# Altium schematic symbol library Mechanical.SchLib: 16 symbols
Pins are listed as number, name and electrical type; pins without a type are passive.

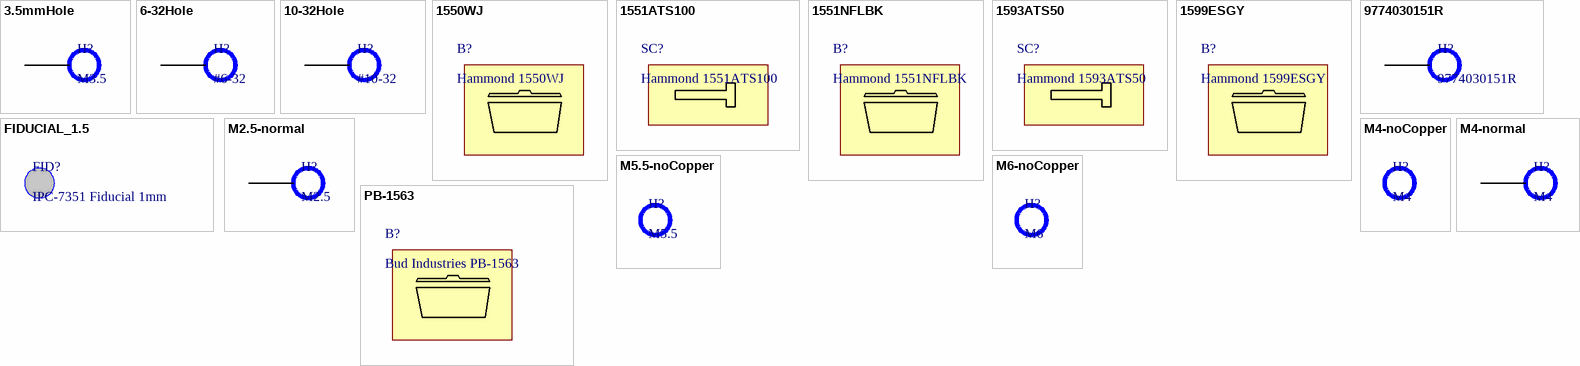
[diagram p0: symbols 3.5mmHole to PB-1563]

## 3.5mmHole
designator H?, comment M3.5  (no BOM)
3.5mm loose fit hole for M3 machine screw; PNP-da: 0
footprint M3.5
pins: 1

## 6-32Hole
designator H?, comment #6-32  (no BOM)
0.150" tight fit hole for #6-32 machine screw; PNP-da: 0
footprint 6-32
pins: 1

## 10-32Hole
designator H?, comment #10-32  (no BOM)
0.190" tight fit hole for #10-32 machine screw; PNP-da: 0
footprint 10-32
pins: 1

## 1550WJ
designator B?, comment Hammond 1550WJ
Box, 10.8" x 6.9", Die-cast Aluminum; PNP-Nzl: 2; PNP-dx: 0; PNP-X: 1; PNP-TS: 70; PNP-Type: CHI; PNP-FeedType: Tape; PNP-TapeWidth: 8; Supplier 1: Digi-Key; Supplier Part Number 1: HM1222-ND; Supplier 2: Mouser; Supplier Part Number 2: 546-1550WJ; PNP-dy: 0; PNP-Y: 1; PNP-A: 0; PNP-Pt: 0; PNP-W: 0; PNP-Thk: 1; PNP-Lv: 1; PNP-Level: 1; PNP-Voff: 0; PNP-PlacePriority: 1; PNP-TapeIndex: 1; PNP-da: 0

## 1551ATS100
designator SC?, comment Hammond 1551ATS100
Screw for PCB Mount, Box 1551NFL (100-pack); PNP-Nzl: 2; PNP-dx: 0; PNP-X: 1; PNP-TS: 70; PNP-Type: CHI; PNP-FeedType: Tape; PNP-TapeWidth: 8; Supplier 1: Digi-Key; Supplier Part Number 1: HM1177-ND; Supplier 2: Arrow; PNP-dy: 0; PNP-Y: 1; PNP-A: 0; PNP-Pt: 0; PNP-W: 0; PNP-Thk: 1; PNP-Lv: 1; PNP-Level: 1; PNP-Voff: 0; PNP-PlacePriority: 1; PNP-TapeIndex: 1; PNP-da: 0

## 1551NFLBK
designator B?, comment Hammond 1551NFLBK
BOX ABS FLANGE BLACK 1.38"L X 1.38"W; PNP-Nzl: 2; PNP-dx: 0; PNP-X: 1; PNP-TS: 70; PNP-Type: CHI; PNP-FeedType: Tape; PNP-TapeWidth: 8; Supplier 1: Digi-Key; Supplier Part Number 1: HM1057-ND; PNP-dy: 0; PNP-Y: 1; PNP-A: 0; PNP-Pt: 0; PNP-W: 0; PNP-Thk: 1; PNP-Lv: 1; PNP-Level: 1; PNP-Voff: 0; PNP-PlacePriority: 1; PNP-TapeIndex: 1; PNP-da: 0

## 1593ATS50
designator SC?, comment Hammond 1593ATS50
Screw for PCB Mount, Box 1599ESGY (50-pack); PNP-Nzl: 2; PNP-dx: 0; PNP-X: 1; PNP-TS: 70; PNP-Type: CHI; PNP-FeedType: Tape; PNP-TapeWidth: 8; Supplier 1: Digi-Key; Supplier Part Number 1: HM1442-ND; PNP-dy: 0; PNP-Y: 1; PNP-A: 0; PNP-Pt: 0; PNP-W: 0; PNP-Thk: 1; PNP-Lv: 1; PNP-Level: 1; PNP-Voff: 0; PNP-PlacePriority: 1; PNP-TapeIndex: 1; PNP-da: 0

## 1599ESGY
designator B?, comment Hammond 1599ESGY
BOX PLASTIC GRAY 6.69"L X 3.37"W; PNP-Nzl: 2; PNP-dx: 0; PNP-X: 1; PNP-TS: 70; PNP-Type: CHI; PNP-FeedType: Tape; PNP-TapeWidth: 8; Supplier 1: Digi-Key; Supplier Part Number 1: HM210-ND; PNP-dy: 0; PNP-Y: 1; PNP-A: 0; PNP-Pt: 0; PNP-W: 0; PNP-Thk: 1; PNP-Lv: 1; PNP-Level: 1; PNP-Voff: 0; PNP-PlacePriority: 1; PNP-TapeIndex: 1; PNP-da: 0

## 9774030151R
designator H?
M2.5, 3mm height PNP/SMT spacer/screw mount; PNP-da: 0; Supplier 1: Digi-Key; Supplier Part Number 1: 732-7083-1-ND
footprint 9774030151R
pins: 1

## FIDUCIAL_1.5
designator FID?, comment IPC-7351 Fiducial 1mm
PNP-Nzl: 2; PNP-dx: 0; PNP-X: 4; PNP-A: 1; PNP-Thk: 1.02; PNP-TS: 70; PNP-Type: MARK1; PNP-dy: 0; PNP-Y: 4; PNP-Pt: 0; PNP-W: 0; PNP-Lv: 1; PNP-Level: 1; PNP-Voff: 0; PNP-FeedType: Fiducial; PNP-TapeWidth: 0; PNP-PlacePriority: 0; PNP-TapeIndex: 0; PNP-da: 0
footprint FIDUCIAL_1.5
pins: 1 hidden

## M2.5-normal
designator H?, comment M2.5  (no BOM)
2.9mm dia. hole for a normal fit M2.5 clearance hole; PNP-da: 0
footprint M2.5-normal
pins: 1

## M4-noCopper
designator H?, comment M4  (no BOM)
4.5mm dia. hole for a normal fit M4 clearance hole - no copper; PNP-da: 0
footprint M4-NOCOPPER

## M4-normal
designator H?, comment M4  (no BOM)
4.5mm dia. hole for a normal fit M4 clearance hole; PNP-da: 0
footprint M4-normal
pins: 1

## M5.5-noCopper
designator H?, comment M5.5  (no BOM)
6mm dia. hole for a normal fit M5.5 clearance hole - no copper; PNP-da: 0
footprint M5.5-NOCOPPER

## M6-noCopper
designator H?, comment M6  (no BOM)
6.5mm dia. hole for a normal fit M6 clearance hole - no copper; PNP-da: 0
footprint M6-NOCOPPER

## PB-1563
designator B?, comment Bud Industries PB-1563
Potting Box, 1.55" x 1.55"; PNP-Nzl: 2; PNP-dx: 0; PNP-X: 1; PNP-TS: 70; PNP-Type: CHI; PNP-FeedType: Tape; PNP-TapeWidth: 8; Supplier 1: Digi-Key; Supplier Part Number 1: 377-1692-ND; Supplier 2: Mouser; Supplier Part Number 2: 563-PB-1563; PNP-dy: 0; PNP-Y: 1; PNP-A: 0; PNP-Pt: 0; PNP-W: 0; PNP-Thk: 1; PNP-Lv: 1; PNP-Level: 1; PNP-Voff: 0; PNP-PlacePriority: 1; PNP-TapeIndex: 1; PNP-da: 0